# Altium integrated library TI Amplifiers and Linear Operational Amplifier High Speed.IntLib: 1100 symbols (part 37 of 44)
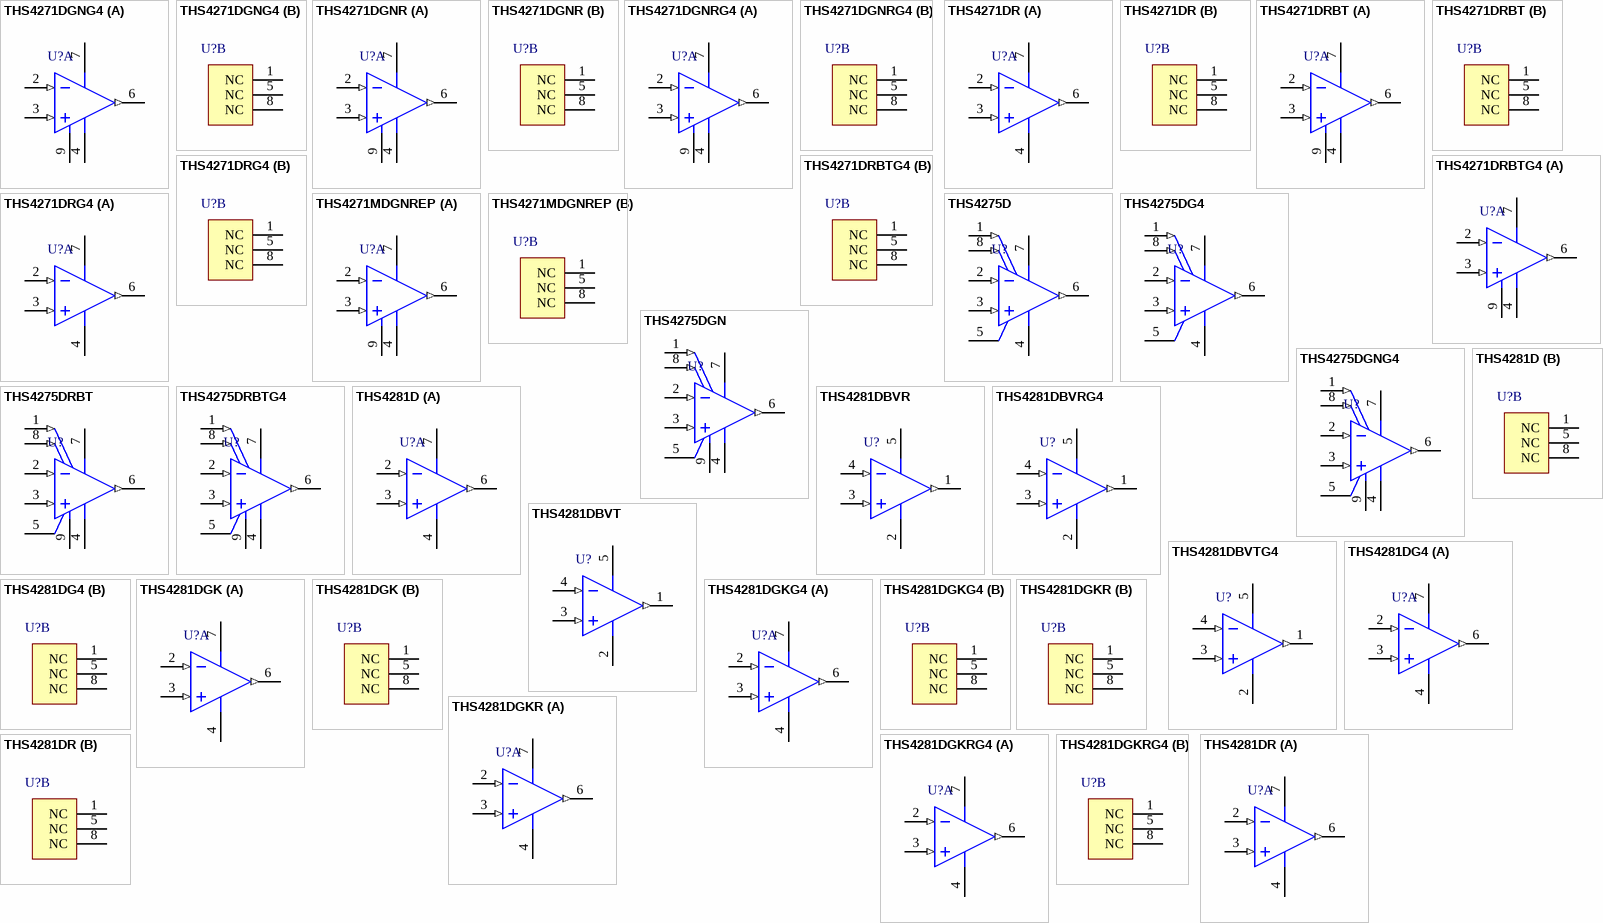
[diagram p87: symbols THS4271DGNG4 to THS4281DR]

## THS4271DRG4
designator U?
Super-Fast Ultra-Low Distortion High Speed Amplifier, 5 to 10 V, -40 to 85 degC, 8-pin SOIC (D8), Green (RoHS & no Sb/Br); Manufacturer: Texas Instruments; PartNumber: THS4271DRG4; 2nd Harmonic(dBc): 92; 3rd Harmonic(dBc): 95; @ MHz: 30; Acl, min stable gain(V/V): 1; BW @ Acl(MHz): 1400; Diff Gain(%): 0.007; Diff Phase(deg): 0.004; Iib(Max)(nA): 18000; Io(Typ)(mA): 160; Iq per channel(Max)(mA): 28; Settling Time (0.1%)(Typ)(ns): 25; Slew Rate(Typ)(V/us): 1000; Sub Family: High Output Current Amplifier (>=50mA), High Speed Amplifier (>=50MHz); THD (Fc is 1 MHz)(Typ)(dB): -92; Vio(Max)(mV): 12; Vn at Flatband(Typ)(nV/rtHz): 3; Vs(Max)(V): 10; Vs(Min)(V): 5; DatasheetVersion: SLOS397F; PackageVersion: 4040047-3/M, 06/2011; PackageReference: D8; PackageDescription: 8-Pin Plastic Small Outline, Body 4.9 x 3.9 mm, Pitch 1.27 mm; Supplier 1: Digi-Key; Supplier Part Number 1: THS4271DRG4-ND; Supplier 2: Mouser; Supplier Part Number 2: 595-THS4271DRG4; Eco-Plan: Green (RoHS & no Sb/Br); Number of Channels: 1; Mounting Technology: Surface Mount; Code_JEDEC: MS-012; ComponentLink1Description: Manufacturer URL; ComponentLink1URL: http://www.ti.com/; ComponentLink2Description: Datasheet; ComponentLink2URL: http://www.ti.com/general/docs/lit/getliterature.tsp?genericPartNumber=THS4271&fileType=pdf; ComponentLink3Description: Package Specification; ComponentLink3URL: http://www.ti.com/litv/pdf/msoi002j
footprint TI-D8_N (SOIC, 8-Leads, Body 4.9x3.9mm, Pitch 1.27mm, IPC Medium Density)
footprint TI-D8_L (SOIC, 8-Leads, Body 4.9x3.9mm, Pitch 1.27mm, IPC High Density)
footprint TI-D8_M (SOIC, 8-Leads, Body 4.9x3.9mm, Pitch 1.27mm, IPC Low Density)
part A pins: 2 IN- (in), 3 IN+ (in), 4 VS- (power), 6 VOUT (out), 7 VS+ (power)
part B pins: 1 NC, 5 NC, 8 NC

## THS4271MDGNREP
designator U?
Enhanced Product Low Noise High Slew Rate Unity Gain Stable Voltage Feedback Amplifier, 5 to 10 V, -55 to 125 degC, 8-pin SOP (DGN8), Green (RoHS & no Sb/Br); Manufacturer: Texas Instruments; PartNumber: THS4271MDGNREP; 2nd Harmonic(dBc): 92; 3rd Harmonic(dBc): 95; @ MHz: 30; BW @ Acl(MHz): 1400; Diff Gain(%): 0.007; Diff Phase(deg): 0.004; Iib(Max)(nA): 18000; Io(Typ)(mA): 160; Iq per channel(Max)(mA): 24; Number of Channels: 1; Settling Time (0.1%)(Typ)(ns): 25; Slew Rate(Typ)(V/us): 1000; Sub Family: High Output Current Amplifier (>=50mA), High Speed Amplifier (>=50MHz); THD (Fc is 1 MHz)(Typ)(dB): -95; Vio(Max)(mV): 14; Vn at Flatband(Typ)(nV/rtHz): 3; Vs(Max)(V): 10; Vs(Min)(V): 5; DatasheetVersion: SGLS270C; PackageVersion: 4073271/F, 05/2011; PackageReference: DGN8-1760X1425TP; PackageDescription: 8-pin Plastic Small Outline, Body 3 x 3 mm, Pitch 0.65 mm; Supplier 1: Arrow; Supplier Part Number 1: 41507530S9815068N7713; Supplier 2: Digi-Key; Supplier Part Number 2: 296-18134-2-ND; Supplier 3: Digi-Key; Supplier Part Number 3: 296-18134-1-ND; Supplier 4: Digi-Key; Supplier Part Number 4: 296-18134-6-ND; Supplier 5: Mouser; Supplier Part Number 5: 595-THS4271MDGNREP; Eco-Plan: Green (RoHS & no Sb/Br); Mounting Technology: Surface Mount; Code_JEDEC: MO-187; ComponentLink1Description: Manufacturer URL; ComponentLink1URL: http://www.ti.com/; ComponentLink2Description: Datasheet; ComponentLink2URL: http://www.ti.com/general/docs/lit/getliterature.tsp?genericPartNumber=THS4271-EP&fileType=pdf; ComponentLink3Description: Package Specification; ComponentLink3URL: http://www.ti.com/litv/pdf/mpds046e
footprint TI-DGN8-1760X1425TP_N (SOP, 8-Leads, Body 3x3mm, Pitch 0.65mm, Thermal Pad 1.76x1.425mm, IPC Medium Density)
footprint TI-DGN8-1760X1425TP_L (SOP, 8-Leads, Body 3x3mm, Pitch 0.65mm, Thermal Pad 1.76x1.425mm, IPC High Density)
footprint TI-DGN8-1760X1425TP_M (SOP, 8-Leads, Body 3x3mm, Pitch 0.65mm, Thermal Pad 1.76 x 1.425 mm, IPC Low Density)
part A pins: 2 IN- (in), 3 IN+ (in), 4 VS- (power), 6 VOUT (out), 7 VS+ (power), 9 EP (power)
part B pins: 1 NC, 5 NC, 8 NC

## THS4275D
designator U?
Super-Fast Ultra-Low Distortion High Speed Amplifier with Shutdown, 5 to 10 V, -40 to 85 degC, 8-pin SOIC (D8), Green (RoHS & no Sb/Br); Manufacturer: Texas Instruments; PartNumber: THS4275D; 2nd Harmonic(dBc): 92; 3rd Harmonic(dBc): 95; @ MHz: 30; Acl, min stable gain(V/V): 1; BW @ Acl(MHz): 1400; Diff Gain(%): 0.007; Diff Phase(deg): 0.004; Iib(Max)(nA): 18000; Io(Typ)(mA): 160; Iq per channel(Max)(mA): 28; Settling Time (0.1%)(Typ)(ns): 25; Slew Rate(Typ)(V/us): 1000; Sub Family: High Output Current Amplifier (>=50mA), High Speed Amplifier (>=50MHz); THD (Fc is 1 MHz)(Typ)(dB): -90; Vio(Max)(mV): 5; Vn at Flatband(Typ)(nV/rtHz): 3; Vs(Max)(V): 15; DatasheetVersion: SLOS397F; PackageVersion: 4040047-3/M, 06/2011; PackageReference: D8; PackageDescription: 8-Pin Plastic Small Outline, Body 4.9 x 3.9 mm, Pitch 1.27 mm; Supplier 1: Digi-Key; Supplier Part Number 1: 296-13824-5-ND; Supplier 2: Farnell; Supplier Part Number 2: 8453349; Supplier 3: Newark; Supplier Part Number 3: 02E7129; Supplier 4: Mouser; Supplier Part Number 4: 595-THS4275D; Eco-Plan: Green (RoHS & no Sb/Br); Number of Channels: 1; Vs(Min)(V): 5; Mounting Technology: Surface Mount; Code_JEDEC: MS-012; ComponentLink1Description: Manufacturer URL; ComponentLink1URL: http://www.ti.com/; ComponentLink2Description: Datasheet; ComponentLink2URL: http://www.ti.com/general/docs/lit/getliterature.tsp?genericPartNumber=THS4275&fileType=pdf; ComponentLink3Description: Package Specification; ComponentLink3URL: http://www.ti.com/litv/pdf/msoi002j
footprint TI-D8_N (SOIC, 8-Leads, Body 4.9x3.9mm, Pitch 1.27mm, IPC Medium Density)
footprint TI-D8_L (SOIC, 8-Leads, Body 4.9x3.9mm, Pitch 1.27mm, IPC High Density)
footprint TI-D8_M (SOIC, 8-Leads, Body 4.9x3.9mm, Pitch 1.27mm, IPC Low Density)
pins: 1 REF (in), 2 IN- (in), 3 IN+ (in), 4 VS- (power), 5 NC, 6 VOUT (out), 7 VS+ (power), 8 ~{PD} (in)

## THS4275DG4
designator U?
Super-Fast Ultra-Low Distortion High Speed Amplifier with Shutdown, 5 to 10 V, -40 to 85 degC, 8-pin SOIC (D8), Green (RoHS & no Sb/Br); Manufacturer: Texas Instruments; PartNumber: THS4275DG4; 2nd Harmonic(dBc): 92; 3rd Harmonic(dBc): 95; @ MHz: 30; Acl, min stable gain(V/V): 1; BW @ Acl(MHz): 1400; Diff Gain(%): 0.007; Diff Phase(deg): 0.004; Iib(Max)(nA): 18000; Io(Typ)(mA): 160; Iq per channel(Max)(mA): 28; Settling Time (0.1%)(Typ)(ns): 25; Slew Rate(Typ)(V/us): 1000; Sub Family: High Output Current Amplifier (>=50mA), High Speed Amplifier (>=50MHz); THD (Fc is 1 MHz)(Typ)(dB): -90; Vio(Max)(mV): 5; Vn at Flatband(Typ)(nV/rtHz): 3; Vs(Max)(V): 15; DatasheetVersion: SLOS397F; PackageVersion: 4040047-3/M, 06/2011; PackageReference: D8; PackageDescription: 8-Pin Plastic Small Outline, Body 4.9 x 3.9 mm, Pitch 1.27 mm; Supplier 1: Digi-Key; Supplier Part Number 1: THS4275DG4-ND; Supplier 2: Mouser; Supplier Part Number 2: 595-THS4275DG4; Eco-Plan: Green (RoHS & no Sb/Br); Number of Channels: 1; Vs(Min)(V): 5; Mounting Technology: Surface Mount; Code_JEDEC: MS-012; ComponentLink1Description: Manufacturer URL; ComponentLink1URL: http://www.ti.com/; ComponentLink2Description: Datasheet; ComponentLink2URL: http://www.ti.com/general/docs/lit/getliterature.tsp?genericPartNumber=THS4275&fileType=pdf; ComponentLink3Description: Package Specification; ComponentLink3URL: http://www.ti.com/litv/pdf/msoi002j
footprint TI-D8_N (SOIC, 8-Leads, Body 4.9x3.9mm, Pitch 1.27mm, IPC Medium Density)
footprint TI-D8_L (SOIC, 8-Leads, Body 4.9x3.9mm, Pitch 1.27mm, IPC High Density)
footprint TI-D8_M (SOIC, 8-Leads, Body 4.9x3.9mm, Pitch 1.27mm, IPC Low Density)
pins: 1 REF (in), 2 IN- (in), 3 IN+ (in), 4 VS- (power), 5 NC, 6 VOUT (out), 7 VS+ (power), 8 ~{PD} (in)

## THS4275DGN
designator U?
Super-Fast Ultra-Low Distortion High Speed Amplifier with Shutdown, 5 to 10 V, -40 to 85 degC, 8-pin SOP (DGN8), Green (RoHS & no Sb/Br); Manufacturer: Texas Instruments; PartNumber: THS4275DGN; 2nd Harmonic(dBc): 92; 3rd Harmonic(dBc): 95; @ MHz: 30; Acl, min stable gain(V/V): 1; BW @ Acl(MHz): 1400; Diff Gain(%): 0.007; Diff Phase(deg): 0.004; Iib(Max)(nA): 18000; Io(Typ)(mA): 160; Iq per channel(Max)(mA): 28; Settling Time (0.1%)(Typ)(ns): 25; Slew Rate(Typ)(V/us): 1000; Sub Family: High Output Current Amplifier (>=50mA), High Speed Amplifier (>=50MHz); THD (Fc is 1 MHz)(Typ)(dB): -90; Vio(Max)(mV): 5; Vn at Flatband(Typ)(nV/rtHz): 3; Vs(Max)(V): 10; DatasheetVersion: SLOS397F; PackageVersion: 4073271/F, 05/2011; PackageReference: DGN8-1760X1425TP; PackageDescription: 8-pin Plastic Small Outline, Body 3 x 3 mm, Pitch 0.65 mm; Supplier 1: Digi-Key; Supplier Part Number 1: 296-13660-5-ND; Supplier 2: Newark; Supplier Part Number 2: 36K7640; Supplier 3: Mouser; Supplier Part Number 3: 595-THS4275DGN; Eco-Plan: Green (RoHS & no Sb/Br); Number of Channels: 1; Vs(Min)(V): 5; Mounting Technology: Surface Mount; Code_JEDEC: MO-187; ComponentLink1Description: Manufacturer URL; ComponentLink1URL: http://www.ti.com/; ComponentLink2Description: Datasheet; ComponentLink2URL: http://www.ti.com/general/docs/lit/getliterature.tsp?genericPartNumber=THS4275&fileType=pdf; ComponentLink3Description: Package Specification; ComponentLink3URL: http://www.ti.com/litv/pdf/mpds046e
footprint TI-DGN8-1760X1425TP_N (SOP, 8-Leads, Body 3x3mm, Pitch 0.65mm, Thermal Pad 1.76x1.425mm, IPC Medium Density)
footprint TI-DGN8-1760X1425TP_L (SOP, 8-Leads, Body 3x3mm, Pitch 0.65mm, Thermal Pad 1.76x1.425mm, IPC High Density)
footprint TI-DGN8-1760X1425TP_M (SOP, 8-Leads, Body 3x3mm, Pitch 0.65mm, Thermal Pad 1.76 x 1.425 mm, IPC Low Density)
pins: 1 REF (in), 2 IN- (in), 3 IN+ (in), 4 VS- (power), 5 NC, 6 VOUT (out), 7 VS+ (power), 8 ~{PD} (in), 9 EP (power)

## THS4275DGNG4
designator U?
Super-Fast Ultra-Low Distortion High Speed Amplifier with Shutdown, 5 to 10 V, -40 to 85 degC, 8-pin SOP (DGN8), Green (RoHS & no Sb/Br); Manufacturer: Texas Instruments; PartNumber: THS4275DGNG4; 2nd Harmonic(dBc): 92; 3rd Harmonic(dBc): 95; @ MHz: 30; Acl, min stable gain(V/V): 1; BW @ Acl(MHz): 1400; Diff Gain(%): 0.007; Diff Phase(deg): 0.004; Iib(Max)(nA): 18000; Io(Typ)(mA): 160; Iq per channel(Max)(mA): 28; Settling Time (0.1%)(Typ)(ns): 25; Slew Rate(Typ)(V/us): 1000; Sub Family: High Output Current Amplifier (>=50mA), High Speed Amplifier (>=50MHz); THD (Fc is 1 MHz)(Typ)(dB): -90; Vio(Max)(mV): 5; Vn at Flatband(Typ)(nV/rtHz): 3; Vs(Max)(V): 10; DatasheetVersion: SLOS397F; PackageVersion: 4073271/F, 05/2011; PackageReference: DGN8-1760X1425TP; PackageDescription: 8-pin Plastic Small Outline, Body 3 x 3 mm, Pitch 0.65 mm; Supplier 1: Digi-Key; Supplier Part Number 1: THS4275DGNG4-ND; Supplier 2: Newark; Supplier Part Number 2: 24K5035; Supplier 3: Mouser; Supplier Part Number 3: 595-THS4275DGNG4; Eco-Plan: Green (RoHS & no Sb/Br); Number of Channels: 1; Vs(Min)(V): 5; Mounting Technology: Surface Mount; Code_JEDEC: MO-187; ComponentLink1Description: Manufacturer URL; ComponentLink1URL: http://www.ti.com/; ComponentLink2Description: Datasheet; ComponentLink2URL: http://www.ti.com/general/docs/lit/getliterature.tsp?genericPartNumber=THS4275&fileType=pdf; ComponentLink3Description: Package Specification; ComponentLink3URL: http://www.ti.com/litv/pdf/mpds046e
footprint TI-DGN8-1760X1425TP_N (SOP, 8-Leads, Body 3x3mm, Pitch 0.65mm, Thermal Pad 1.76x1.425mm, IPC Medium Density)
footprint TI-DGN8-1760X1425TP_L (SOP, 8-Leads, Body 3x3mm, Pitch 0.65mm, Thermal Pad 1.76x1.425mm, IPC High Density)
footprint TI-DGN8-1760X1425TP_M (SOP, 8-Leads, Body 3x3mm, Pitch 0.65mm, Thermal Pad 1.76 x 1.425 mm, IPC Low Density)
pins: 1 REF (in), 2 IN- (in), 3 IN+ (in), 4 VS- (power), 5 NC, 6 VOUT (out), 7 VS+ (power), 8 ~{PD} (in), 9 EP (power)

## THS4275DRBT
designator U?
Super-Fast Ultra-Low Distortion High Speed Amplifier with Shutdown, 5 to 10 V, -40 to 85 degC, 8-pin SON (DRB8), Green (RoHS & no Sb/Br); Manufacturer: Texas Instruments; PartNumber: THS4275DRBT; 2nd Harmonic(dBc): 92; 3rd Harmonic(dBc): 95; @ MHz: 30; Acl, min stable gain(V/V): 1; BW @ Acl(MHz): 1400; Diff Gain(%): 0.007; Diff Phase(deg): 0.004; Iib(Max)(nA): 18000; Io(Typ)(mA): 160; Iq per channel(Max)(mA): 28; Settling Time (0.1%)(Typ)(ns): 25; Slew Rate(Typ)(V/us): 1000; Sub Family: High Output Current Amplifier (>=50mA), High Speed Amplifier (>=50MHz); THD (Fc is 1 MHz)(Typ)(dB): -90; Vio(Max)(mV): 5; Vn at Flatband(Typ)(nV/rtHz): 3; Vs(Max)(V): 10; DatasheetVersion: SLOS397F; PackageVersion: 4203482-2/K, 06/2012; PackageReference: DRB8-1750X1500TP; PackageDescription: 8-Pin Plastic Small Outline, Body 3 x 3 mm, Pitch 0.65 mm; Supplier 1: Digi-Key; Supplier Part Number 1: 296-15406-2-ND; Supplier 2: Digi-Key; Supplier Part Number 2: 296-15406-1-ND; Supplier 3: Digi-Key; Supplier Part Number 3: 296-15406-6-ND; Supplier 4: Newark; Supplier Part Number 4: 82H5815; Supplier 5: Mouser; Supplier Part Number 5: 595-THS4275DRBT; Eco-Plan: Green (RoHS & no Sb/Br); Number of Channels: 1; Vs(Min)(V): 5; Mounting Technology: Surface Mount; ComponentLink1Description: Manufacturer URL; ComponentLink1URL: http://www.ti.com/; ComponentLink2Description: Datasheet; ComponentLink2URL: http://www.ti.com/general/docs/lit/getliterature.tsp?genericPartNumber=THS4275&fileType=pdf; ComponentLink3Description: Package Specification; ComponentLink3URL: http://www.ti.com/litv/pdf/mpds118h
footprint TI-DRB8-1750X1500TP_V (SON, 8-Leads, Body 3x3mm, Pitch 0.65mm, Thermal Pad 1.50 x 3.8mm)
pins: 1 REF (in), 2 IN- (in), 3 IN+ (in), 4 VS- (power), 5 NC, 6 VOUT (out), 7 VS+ (power), 8 ~{PD} (in), 9 EP (power)

## THS4275DRBTG4
designator U?
Super-Fast Ultra-Low Distortion High Speed Amplifier with Shutdown, 5 to 10 V, -40 to 85 degC, 8-pin SON (DRB8), Green (RoHS & no Sb/Br); Manufacturer: Texas Instruments; PartNumber: THS4275DRBTG4; 2nd Harmonic(dBc): 92; 3rd Harmonic(dBc): 95; @ MHz: 30; Acl, min stable gain(V/V): 1; BW @ Acl(MHz): 1400; Diff Gain(%): 0.007; Diff Phase(deg): 0.004; Iib(Max)(nA): 18000; Io(Typ)(mA): 160; Iq per channel(Max)(mA): 28; Settling Time (0.1%)(Typ)(ns): 25; Slew Rate(Typ)(V/us): 1000; Sub Family: High Output Current Amplifier (>=50mA), High Speed Amplifier (>=50MHz); THD (Fc is 1 MHz)(Typ)(dB): -90; Vio(Max)(mV): 12; Vn at Flatband(Typ)(nV/rtHz): 3; Vs(Max)(V): 10; Vs(Min)(V): 5; DatasheetVersion: SLOS397F; PackageVersion: 4203482-2/K, 06/2012; PackageReference: DRB8-1750X1500TP; PackageDescription: 8-Pin Plastic Small Outline, Body 3 x 3 mm, Pitch 0.65 mm; Supplier 1: Digi-Key; Supplier Part Number 1: THS4275DRBTG4-ND; Supplier 2: Mouser; Supplier Part Number 2: 595-THS4275DRBTG4; Eco-Plan: Green (RoHS & no Sb/Br); Number of Channels: 1; Mounting Technology: Surface Mount; ComponentLink1Description: Manufacturer URL; ComponentLink1URL: http://www.ti.com/; ComponentLink2Description: Datasheet; ComponentLink2URL: http://www.ti.com/general/docs/lit/getliterature.tsp?genericPartNumber=THS4275&fileType=pdf; ComponentLink3Description: Package Specification; ComponentLink3URL: http://www.ti.com/litv/pdf/mpds118h
footprint TI-DRB8-1750X1500TP_V (SON, 8-Leads, Body 3x3mm, Pitch 0.65mm, Thermal Pad 1.50 x 3.8mm)
pins: 1 REF (in), 2 IN- (in), 3 IN+ (in), 4 VS- (power), 5 NC, 6 VOUT (out), 7 VS+ (power), 8 ~{PD} (in), 9 EP (power)

## THS4281D
designator U?
Very Low-Power High Speed Rail-to-Rail Input / Output Voltage Feedback Operational Amplifier, 2.7 to 16.5 V, -40 to 85 degC, 8-pin SOIC (D8), Green (RoHS & no Sb/Br); Manufacturer: Texas Instruments; PartNumber: THS4281D; 2nd Harmonic(dBc): 52; @ MHz: 1; BW @ Acl(MHz): 90; Diff Gain(%): 0.11; Iib(Max)(nA): 1000; Io(Typ)(mA): 30; Rail-Rail: In, Out; Settling Time (0.1%)(Typ)(ns): 78; Slew Rate(Typ)(V/us): 35; Sub Family: High Speed Amplifier (>=50MHz), Low Supply Voltage Amplifier (<=2.7V); THD (Fc is 1 MHz)(Typ)(dB): -67; Vio(Max)(mV): 3.5; Vn at Flatband(Typ)(nV/rtHz): 12.5; Vs(Max)(V): 16.5; Vs(Min)(V): 2.7; DatasheetVersion: SLOS432A; PackageVersion: 4040047-3/M, 06/2011; PackageReference: D8; PackageDescription: 8-Pin Plastic Small Outline, Body 4.9 x 3.9 mm, Pitch 1.27 mm; Supplier 1: Digi-Key; Supplier Part Number 1: 296-16999-5-ND; Supplier 2: Farnell; Supplier Part Number 2: 8453357; Supplier 3: Newark; Supplier Part Number 3: 38K8261; Supplier 4: Newark; Supplier Part Number 4: 10J9687; Supplier 5: Mouser; Supplier Part Number 5: 595-THS4281D; 3rd Harmonic(dBc): 52; Acl, min stable gain(V/V): 1; Diff Phase(deg): 0.11; Eco-Plan: Green (RoHS & no Sb/Br); Iq per channel(Max)(mA): 1; Number of Channels: 1; Mounting Technology: Surface Mount; Code_JEDEC: MS-012; ComponentLink1Description: Manufacturer URL; ComponentLink1URL: http://www.ti.com/; ComponentLink2Description: Datasheet; ComponentLink2URL: http://www.ti.com/general/docs/lit/getliterature.tsp?genericPartNumber=THS4281&fileType=pdf; ComponentLink3Description: Package Specification; ComponentLink3URL: http://www.ti.com/litv/pdf/msoi002j
footprint TI-D8_N (SOIC, 8-Leads, Body 4.9x3.9mm, Pitch 1.27mm, IPC Medium Density)
footprint TI-D8_L (SOIC, 8-Leads, Body 4.9x3.9mm, Pitch 1.27mm, IPC High Density)
footprint TI-D8_M (SOIC, 8-Leads, Body 4.9x3.9mm, Pitch 1.27mm, IPC Low Density)
part A pins: 2 IN- (in), 3 IN+ (in), 4 VS- (power), 6 VOUT (out), 7 VS+ (power)
part B pins: 1 NC, 5 NC, 8 NC

## THS4281DBVR
designator U?
Very Low-Power High Speed Rail-to-Rail Input / Output Voltage Feedback Operational Amplifier, 2.7 to 16.5 V, -40 to 85 degC, 5-pin SOT23 (DBV5), Green (RoHS & no Sb/Br); Manufacturer: Texas Instruments; PartNumber: THS4281DBVR; 2nd Harmonic(dBc): 52; @ MHz: 1; BW @ Acl(MHz): 90; Diff Gain(%): 0.11; Iib(Max)(nA): 1000; Io(Typ)(mA): 30; Rail-Rail: In, Out; Settling Time (0.1%)(Typ)(ns): 78; Slew Rate(Typ)(V/us): 35; Sub Family: High Speed Amplifier (>=50MHz), Low Supply Voltage Amplifier (<=2.7V); THD (Fc is 1 MHz)(Typ)(dB): -67; Vio(Max)(mV): 3.5; Vn at Flatband(Typ)(nV/rtHz): 12.5; Vs(Max)(V): 16.5; Vs(Min)(V): 2.7; DatasheetVersion: SLOS432A; PackageVersion: 4073253-4/K, 03/2006; PackageReference: DBV5; PackageDescription: 5-Pin Plastic Small Outline, Body 1.6 x 2.9 mm, Pitch 0.95 mm; Supplier 1: Digi-Key; Supplier Part Number 1: THS4281DBVR-ND; Supplier 2: Newark; Supplier Part Number 2: 10J9688; Supplier 3: Mouser; Supplier Part Number 3: 595-THS4281DBVR; 3rd Harmonic(dBc): 52; Acl, min stable gain(V/V): 1; Diff Phase(deg): 0.11; Eco-Plan: Green (RoHS & no Sb/Br); Iq per channel(Max)(mA): 1; Number of Channels: 1; Mounting Technology: Surface Mount; Code_JEDEC: MO-178; ComponentLink1Description: Manufacturer URL; ComponentLink1URL: http://www.ti.com/; ComponentLink2Description: Datasheet; ComponentLink2URL: http://www.ti.com/general/docs/lit/getliterature.tsp?genericPartNumber=THS4281&fileType=pdf; ComponentLink3Description: Package Specification; ComponentLink3URL: http://www.ti.com/litv/pdf/mpds018i
footprint TI-DBV5_N (SOT23, 5-Leads, Body 2.9x1.6mm, Pitch 0.95mm, IPC Medium Density)
footprint TI-DBV5_L (SOT23, 5-Leads, Body 2.9x1.6mm, Pitch 0.95mm, IPC High Density)
footprint TI-DBV5_M (SOT23, 5-Leads, Body 2.9x1.6mm, Pitch 0.95mm, IPC Low Density)
pins: 1 VOUT (out), 2 VS- (power), 3 IN+ (in), 4 IN- (in), 5 VS+ (power)

## THS4281DBVRG4
designator U?
Very Low-Power High Speed Rail-to-Rail Input / Output Voltage Feedback Operational Amplifier, 2.7 to 16.5 V, -40 to 85 degC, 5-pin SOT23 (DBV5), Green (RoHS & no Sb/Br); Manufacturer: Texas Instruments; PartNumber: THS4281DBVRG4; 2nd Harmonic(dBc): 52; @ MHz: 1; BW @ Acl(MHz): 90; Diff Gain(%): 0.11; Iib(Max)(nA): 1000; Io(Typ)(mA): 30; Rail-Rail: In, Out; Settling Time (0.1%)(Typ)(ns): 78; Slew Rate(Typ)(V/us): 35; Sub Family: High Speed Amplifier (>=50MHz), Low Supply Voltage Amplifier (<=2.7V); THD (Fc is 1 MHz)(Typ)(dB): -67; Vio(Max)(mV): 3.5; Vn at Flatband(Typ)(nV/rtHz): 12.5; Vs(Max)(V): 16.5; Vs(Min)(V): 2.7; DatasheetVersion: SLOS432A; PackageVersion: 4073253-4/K, 03/2006; PackageReference: DBV5; PackageDescription: 5-Pin Plastic Small Outline, Body 1.6 x 2.9 mm, Pitch 0.95 mm; Supplier 1: Digi-Key; Supplier Part Number 1: THS4281DBVRG4-ND; Supplier 2: Mouser; Supplier Part Number 2: 595-THS4281DBVRG4; 3rd Harmonic(dBc): 52; Acl, min stable gain(V/V): 1; Diff Phase(deg): 0.11; Eco-Plan: Green (RoHS & no Sb/Br); Iq per channel(Max)(mA): 1; Number of Channels: 1; Mounting Technology: Surface Mount; Code_JEDEC: MO-178; ComponentLink1Description: Manufacturer URL; ComponentLink1URL: http://www.ti.com/; ComponentLink2Description: Datasheet; ComponentLink2URL: http://www.ti.com/general/docs/lit/getliterature.tsp?genericPartNumber=THS4281&fileType=pdf; ComponentLink3Description: Package Specification; ComponentLink3URL: http://www.ti.com/litv/pdf/mpds018i
footprint TI-DBV5_N (SOT23, 5-Leads, Body 2.9x1.6mm, Pitch 0.95mm, IPC Medium Density)
footprint TI-DBV5_L (SOT23, 5-Leads, Body 2.9x1.6mm, Pitch 0.95mm, IPC High Density)
footprint TI-DBV5_M (SOT23, 5-Leads, Body 2.9x1.6mm, Pitch 0.95mm, IPC Low Density)
pins: 1 VOUT (out), 2 VS- (power), 3 IN+ (in), 4 IN- (in), 5 VS+ (power)

## THS4281DBVT
designator U?
Very Low-Power High Speed Rail-to-Rail Input / Output Voltage Feedback Operational Amplifier, 2.7 to 16.5 V, -40 to 85 degC, 5-pin SOT23 (DBV5), Green (RoHS & no Sb/Br); Manufacturer: Texas Instruments; PartNumber: THS4281DBVT; 2nd Harmonic(dBc): 52; @ MHz: 1; BW @ Acl(MHz): 90; Diff Gain(%): 0.11; Iib(Max)(nA): 1000; Io(Typ)(mA): 30; Rail-Rail: In, Out; Settling Time (0.1%)(Typ)(ns): 78; Slew Rate(Typ)(V/us): 35; Sub Family: High Speed Amplifier (>=50MHz), Low Supply Voltage Amplifier (<=2.7V); THD (Fc is 1 MHz)(Typ)(dB): -67; Vio(Max)(mV): 3.5; Vn at Flatband(Typ)(nV/rtHz): 12.5; Vs(Max)(V): 16.5; Vs(Min)(V): 2.7; DatasheetVersion: SLOS432A; PackageVersion: 4073253-4/K, 03/2006; PackageReference: DBV5; PackageDescription: 5-Pin Plastic Small Outline, Body 1.6 x 2.9 mm, Pitch 0.95 mm; Supplier 1: Digi-Key; Supplier Part Number 1: 296-17000-2-ND; Supplier 2: Digi-Key; Supplier Part Number 2: 296-17000-1-ND; Supplier 3: Digi-Key; Supplier Part Number 3: 296-17000-6-ND; Supplier 4: Farnell; Supplier Part Number 4: 2075434; Supplier 5: Newark; Supplier Part Number 5: 10J9689; Supplier 6: Mouser; Supplier Part Number 6: 595-THS4281DBVT; 3rd Harmonic(dBc): 52; Acl, min stable gain(V/V): 1; Diff Phase(deg): 0.11; Eco-Plan: Green (RoHS & no Sb/Br); Iq per channel(Max)(mA): 1; Number of Channels: 1; Mounting Technology: Surface Mount; Code_JEDEC: MO-178; ComponentLink1Description: Manufacturer URL; ComponentLink1URL: http://www.ti.com/; ComponentLink2Description: Datasheet; ComponentLink2URL: http://www.ti.com/general/docs/lit/getliterature.tsp?genericPartNumber=THS4281&fileType=pdf; ComponentLink3Description: Package Specification; ComponentLink3URL: http://www.ti.com/litv/pdf/mpds018i
footprint TI-DBV5_N (SOT23, 5-Leads, Body 2.9x1.6mm, Pitch 0.95mm, IPC Medium Density)
footprint TI-DBV5_L (SOT23, 5-Leads, Body 2.9x1.6mm, Pitch 0.95mm, IPC High Density)
footprint TI-DBV5_M (SOT23, 5-Leads, Body 2.9x1.6mm, Pitch 0.95mm, IPC Low Density)
pins: 1 VOUT (out), 2 VS- (power), 3 IN+ (in), 4 IN- (in), 5 VS+ (power)

## THS4281DBVTG4
designator U?
Very Low-Power High Speed Rail-to-Rail Input / Output Voltage Feedback Operational Amplifier, 2.7 to 16.5 V, -40 to 85 degC, 5-pin SOT23 (DBV5), Green (RoHS & no Sb/Br); Manufacturer: Texas Instruments; PartNumber: THS4281DBVTG4; 2nd Harmonic(dBc): 52; @ MHz: 1; BW @ Acl(MHz): 90; Diff Gain(%): 0.11; Iib(Max)(nA): 1000; Io(Typ)(mA): 30; Rail-Rail: In, Out; Settling Time (0.1%)(Typ)(ns): 78; Slew Rate(Typ)(V/us): 35; Sub Family: High Speed Amplifier (>=50MHz), Low Supply Voltage Amplifier (<=2.7V); THD (Fc is 1 MHz)(Typ)(dB): -67; Vio(Max)(mV): 3.5; Vn at Flatband(Typ)(nV/rtHz): 12.5; Vs(Max)(V): 16.5; Vs(Min)(V): 2.7; DatasheetVersion: SLOS432A; PackageVersion: 4073253-4/K, 03/2006; PackageReference: DBV5; PackageDescription: 5-Pin Plastic Small Outline, Body 1.6 x 2.9 mm, Pitch 0.95 mm; Supplier 1: Digi-Key; Supplier Part Number 1: THS4281DBVTG4-ND; Supplier 2: Mouser; Supplier Part Number 2: 595-THS4281DBVTG4; 3rd Harmonic(dBc): 52; Acl, min stable gain(V/V): 1; Diff Phase(deg): 0.11; Eco-Plan: Green (RoHS & no Sb/Br); Iq per channel(Max)(mA): 1; Number of Channels: 1; Mounting Technology: Surface Mount; Code_JEDEC: MO-178; ComponentLink1Description: Manufacturer URL; ComponentLink1URL: http://www.ti.com/; ComponentLink2Description: Datasheet; ComponentLink2URL: http://www.ti.com/general/docs/lit/getliterature.tsp?genericPartNumber=THS4281&fileType=pdf; ComponentLink3Description: Package Specification; ComponentLink3URL: http://www.ti.com/litv/pdf/mpds018i
footprint TI-DBV5_N (SOT23, 5-Leads, Body 2.9x1.6mm, Pitch 0.95mm, IPC Medium Density)
footprint TI-DBV5_L (SOT23, 5-Leads, Body 2.9x1.6mm, Pitch 0.95mm, IPC High Density)
footprint TI-DBV5_M (SOT23, 5-Leads, Body 2.9x1.6mm, Pitch 0.95mm, IPC Low Density)
pins: 1 VOUT (out), 2 VS- (power), 3 IN+ (in), 4 IN- (in), 5 VS+ (power)

## THS4281DG4
designator U?
Very Low-Power High Speed Rail-to-Rail Input / Output Voltage Feedback Operational Amplifier, 2.7 to 16.5 V, -40 to 85 degC, 8-pin SOIC (D8), Green (RoHS & no Sb/Br); Manufacturer: Texas Instruments; PartNumber: THS4281DG4; 2nd Harmonic(dBc): 52; @ MHz: 1; BW @ Acl(MHz): 90; Diff Gain(%): 0.11; Iib(Max)(nA): 1000; Io(Typ)(mA): 30; Rail-Rail: In, Out; Settling Time (0.1%)(Typ)(ns): 78; Slew Rate(Typ)(V/us): 35; Sub Family: High Speed Amplifier (>=50MHz), Low Supply Voltage Amplifier (<=2.7V); THD (Fc is 1 MHz)(Typ)(dB): -67; Vio(Max)(mV): 3.5; Vn at Flatband(Typ)(nV/rtHz): 12.5; Vs(Max)(V): 16.5; Vs(Min)(V): 2.7; DatasheetVersion: SLOS432A; PackageVersion: 4040047-3/M, 06/2011; PackageReference: D8; PackageDescription: 8-Pin Plastic Small Outline, Body 4.9 x 3.9 mm, Pitch 1.27 mm; Supplier 1: Digi-Key; Supplier Part Number 1: THS4281DG4-ND; Supplier 2: Mouser; Supplier Part Number 2: 595-THS4281DG4; 3rd Harmonic(dBc): 52; Acl, min stable gain(V/V): 1; Diff Phase(deg): 0.11; Eco-Plan: Green (RoHS & no Sb/Br); Iq per channel(Max)(mA): 1; Number of Channels: 1; Mounting Technology: Surface Mount; Code_JEDEC: MS-012; ComponentLink1Description: Manufacturer URL; ComponentLink1URL: http://www.ti.com/; ComponentLink2Description: Datasheet; ComponentLink2URL: http://www.ti.com/general/docs/lit/getliterature.tsp?genericPartNumber=THS4281&fileType=pdf; ComponentLink3Description: Package Specification; ComponentLink3URL: http://www.ti.com/litv/pdf/msoi002j
footprint TI-D8_N (SOIC, 8-Leads, Body 4.9x3.9mm, Pitch 1.27mm, IPC Medium Density)
footprint TI-D8_L (SOIC, 8-Leads, Body 4.9x3.9mm, Pitch 1.27mm, IPC High Density)
footprint TI-D8_M (SOIC, 8-Leads, Body 4.9x3.9mm, Pitch 1.27mm, IPC Low Density)
part A pins: 2 IN- (in), 3 IN+ (in), 4 VS- (power), 6 VOUT (out), 7 VS+ (power)
part B pins: 1 NC, 5 NC, 8 NC

## THS4281DGK
designator U?
Very Low-Power High Speed Rail-to-Rail Input / Output Voltage Feedback Operational Amplifier, 2.7 to 16.5 V, -40 to 85 degC, 8-pin SOP (DGK8), Green (RoHS & no Sb/Br); Manufacturer: Texas Instruments; PartNumber: THS4281DGK; 2nd Harmonic(dBc): 52; @ MHz: 1; BW @ Acl(MHz): 90; Diff Gain(%): 0.11; Iib(Max)(nA): 1000; Io(Typ)(mA): 30; Rail-Rail: In, Out; Settling Time (0.1%)(Typ)(ns): 78; Slew Rate(Typ)(V/us): 35; Sub Family: High Speed Amplifier (>=50MHz), Low Supply Voltage Amplifier (<=2.7V); THD (Fc is 1 MHz)(Typ)(dB): -67; Vio(Max)(mV): 3.5; Vn at Flatband(Typ)(nV/rtHz): 12.5; Vs(Max)(V): 16.5; Vs(Min)(V): 2.7; DatasheetVersion: SLOS432A; PackageVersion: 4073329/E, 05/2006; PackageReference: DGK8; PackageDescription: 8-Pin Thin Small Outline, Body 3 x 3 mm, Pitch 0.65 mm; Supplier 1: Digi-Key; Supplier Part Number 1: 296-17001-5-ND; Supplier 2: Mouser; Supplier Part Number 2: 595-THS4281DGK; 3rd Harmonic(dBc): 52; Acl, min stable gain(V/V): 1; Diff Phase(deg): 0.11; Eco-Plan: Green (RoHS & no Sb/Br); Iq per channel(Max)(mA): 1; Number of Channels: 1; Mounting Technology: Surface Mount; Code_JEDEC: MO-187; ComponentLink1Description: Manufacturer URL; ComponentLink1URL: http://www.ti.com/; ComponentLink2Description: Datasheet; ComponentLink2URL: http://www.ti.com/general/docs/lit/getliterature.tsp?genericPartNumber=THS4281&fileType=pdf; ComponentLink3Description: Package Specification; ComponentLink3URL: http://www.ti.com/litv/pdf/mpds028d
footprint TI-DGK8_N (SOP, 8-Leads, Body 3x3mm, Pitch 0.65mm, IPC Medium Density)
footprint TI-DGK8_L (SOP, 8-Leads, Body 3x3mm, Pitch 0.65mm, IPC High Density)
footprint TI-DGK8_M (SOP, 8-Leads, Body 3x3mm, Pitch 0.65mm, IPC Low Density)
part A pins: 2 IN- (in), 3 IN+ (in), 4 VS- (power), 6 VOUT (out), 7 VS+ (power)
part B pins: 1 NC, 5 NC, 8 NC

## THS4281DGKG4
designator U?
Very Low-Power High Speed Rail-to-Rail Input / Output Voltage Feedback Operational Amplifier, 2.7 to 16.5 V, -40 to 85 degC, 8-pin SOP (DGK8), Green (RoHS & no Sb/Br); Manufacturer: Texas Instruments; PartNumber: THS4281DGKG4; 2nd Harmonic(dBc): 52; @ MHz: 1; BW @ Acl(MHz): 90; Diff Gain(%): 0.11; Iib(Max)(nA): 1000; Io(Typ)(mA): 30; Rail-Rail: In, Out; Settling Time (0.1%)(Typ)(ns): 78; Slew Rate(Typ)(V/us): 35; Sub Family: High Speed Amplifier (>=50MHz), Low Supply Voltage Amplifier (<=2.7V); THD (Fc is 1 MHz)(Typ)(dB): -67; Vio(Max)(mV): 3.5; Vn at Flatband(Typ)(nV/rtHz): 12.5; Vs(Max)(V): 16.5; Vs(Min)(V): 2.7; DatasheetVersion: SLOS432A; PackageVersion: 4073329/E, 05/2006; PackageReference: DGK8; PackageDescription: 8-Pin Thin Small Outline, Body 3 x 3 mm, Pitch 0.65 mm; Supplier 1: Digi-Key; Supplier Part Number 1: THS4281DGKG4-ND; Supplier 2: Mouser; Supplier Part Number 2: 595-THS4281DGKG4; 3rd Harmonic(dBc): 52; Acl, min stable gain(V/V): 1; Diff Phase(deg): 0.11; Eco-Plan: Green (RoHS & no Sb/Br); Iq per channel(Max)(mA): 1; Number of Channels: 1; Mounting Technology: Surface Mount; Code_JEDEC: MO-187; ComponentLink1Description: Manufacturer URL; ComponentLink1URL: http://www.ti.com/; ComponentLink2Description: Datasheet; ComponentLink2URL: http://www.ti.com/general/docs/lit/getliterature.tsp?genericPartNumber=THS4281&fileType=pdf; ComponentLink3Description: Package Specification; ComponentLink3URL: http://www.ti.com/litv/pdf/mpds028d
footprint TI-DGK8_N (SOP, 8-Leads, Body 3x3mm, Pitch 0.65mm, IPC Medium Density)
footprint TI-DGK8_L (SOP, 8-Leads, Body 3x3mm, Pitch 0.65mm, IPC High Density)
footprint TI-DGK8_M (SOP, 8-Leads, Body 3x3mm, Pitch 0.65mm, IPC Low Density)
part A pins: 2 IN- (in), 3 IN+ (in), 4 VS- (power), 6 VOUT (out), 7 VS+ (power)
part B pins: 1 NC, 5 NC, 8 NC

## THS4281DGKR
designator U?
Very Low-Power High Speed Rail-to-Rail Input / Output Voltage Feedback Operational Amplifier, 2.7 to 16.5 V, -40 to 85 degC, 8-pin SOP (DGK8), Green (RoHS & no Sb/Br); Manufacturer: Texas Instruments; PartNumber: THS4281DGKR; 2nd Harmonic(dBc): 52; @ MHz: 1; BW @ Acl(MHz): 90; Diff Gain(%): 0.11; Iib(Max)(nA): 1000; Io(Typ)(mA): 30; Rail-Rail: In, Out; Settling Time (0.1%)(Typ)(ns): 78; Slew Rate(Typ)(V/us): 35; Sub Family: High Speed Amplifier (>=50MHz), Low Supply Voltage Amplifier (<=2.7V); THD (Fc is 1 MHz)(Typ)(dB): -67; Vio(Max)(mV): 3.5; Vn at Flatband(Typ)(nV/rtHz): 12.5; Vs(Max)(V): 16.5; Vs(Min)(V): 2.7; DatasheetVersion: SLOS432A; PackageVersion: 4073329/E, 05/2006; PackageReference: DGK8; PackageDescription: 8-Pin Thin Small Outline, Body 3 x 3 mm, Pitch 0.65 mm; Supplier 1: Digi-Key; Supplier Part Number 1: THS4281DGKR-ND; Supplier 2: Mouser; Supplier Part Number 2: 595-THS4281DGKR; 3rd Harmonic(dBc): 52; Acl, min stable gain(V/V): 1; Diff Phase(deg): 0.11; Eco-Plan: Green (RoHS & no Sb/Br); Iq per channel(Max)(mA): 1; Number of Channels: 1; Mounting Technology: Surface Mount; Code_JEDEC: MO-187; ComponentLink1Description: Manufacturer URL; ComponentLink1URL: http://www.ti.com/; ComponentLink2Description: Datasheet; ComponentLink2URL: http://www.ti.com/general/docs/lit/getliterature.tsp?genericPartNumber=THS4281&fileType=pdf; ComponentLink3Description: Package Specification; ComponentLink3URL: http://www.ti.com/litv/pdf/mpds028d
footprint TI-DGK8_N (SOP, 8-Leads, Body 3x3mm, Pitch 0.65mm, IPC Medium Density)
footprint TI-DGK8_L (SOP, 8-Leads, Body 3x3mm, Pitch 0.65mm, IPC High Density)
footprint TI-DGK8_M (SOP, 8-Leads, Body 3x3mm, Pitch 0.65mm, IPC Low Density)
part A pins: 2 IN- (in), 3 IN+ (in), 4 VS- (power), 6 VOUT (out), 7 VS+ (power)
part B pins: 1 NC, 5 NC, 8 NC

## THS4281DGKRG4
designator U?
Very Low-Power High Speed Rail-to-Rail Input / Output Voltage Feedback Operational Amplifier, 2.7 to 16.5 V, -40 to 85 degC, 8-pin SOP (DGK8), Green (RoHS & no Sb/Br); Manufacturer: Texas Instruments; PartNumber: THS4281DGKRG4; 2nd Harmonic(dBc): 52; @ MHz: 1; BW @ Acl(MHz): 90; Diff Gain(%): 0.11; Iib(Max)(nA): 1000; Io(Typ)(mA): 30; Rail-Rail: In, Out; Settling Time (0.1%)(Typ)(ns): 78; Slew Rate(Typ)(V/us): 35; Sub Family: High Speed Amplifier (>=50MHz), Low Supply Voltage Amplifier (<=2.7V); THD (Fc is 1 MHz)(Typ)(dB): -67; Vio(Max)(mV): 3.5; Vn at Flatband(Typ)(nV/rtHz): 12.5; Vs(Max)(V): 16.5; Vs(Min)(V): 2.7; DatasheetVersion: SLOS432A; PackageVersion: 4073329/E, 05/2006; PackageReference: DGK8; PackageDescription: 8-Pin Thin Small Outline, Body 3 x 3 mm, Pitch 0.65 mm; Supplier 1: Digi-Key; Supplier Part Number 1: THS4281DGKRG4-ND; Supplier 2: Mouser; Supplier Part Number 2: 595-THS4281DGKRG4; 3rd Harmonic(dBc): 52; Acl, min stable gain(V/V): 1; Diff Phase(deg): 0.11; Eco-Plan: Green (RoHS & no Sb/Br); Iq per channel(Max)(mA): 1; Number of Channels: 1; Mounting Technology: Surface Mount; Code_JEDEC: MO-187; ComponentLink1Description: Manufacturer URL; ComponentLink1URL: http://www.ti.com/; ComponentLink2Description: Datasheet; ComponentLink2URL: http://www.ti.com/general/docs/lit/getliterature.tsp?genericPartNumber=THS4281&fileType=pdf; ComponentLink3Description: Package Specification; ComponentLink3URL: http://www.ti.com/litv/pdf/mpds028d
footprint TI-DGK8_N (SOP, 8-Leads, Body 3x3mm, Pitch 0.65mm, IPC Medium Density)
footprint TI-DGK8_L (SOP, 8-Leads, Body 3x3mm, Pitch 0.65mm, IPC High Density)
footprint TI-DGK8_M (SOP, 8-Leads, Body 3x3mm, Pitch 0.65mm, IPC Low Density)
part A pins: 2 IN- (in), 3 IN+ (in), 4 VS- (power), 6 VOUT (out), 7 VS+ (power)
part B pins: 1 NC, 5 NC, 8 NC

## THS4281DR
designator U?
Very Low-Power High Speed Rail-to-Rail Input / Output Voltage Feedback Operational Amplifier, 2.7 to 16.5 V, -40 to 85 degC, 8-pin SOIC (D8), Green (RoHS & no Sb/Br); Manufacturer: Texas Instruments; PartNumber: THS4281DR; 2nd Harmonic(dBc): 52; @ MHz: 1; BW @ Acl(MHz): 90; Diff Gain(%): 0.11; Iib(Max)(nA): 1000; Io(Typ)(mA): 30; Rail-Rail: In, Out; Settling Time (0.1%)(Typ)(ns): 78; Slew Rate(Typ)(V/us): 35; Sub Family: High Speed Amplifier (>=50MHz), Low Supply Voltage Amplifier (<=2.7V); THD (Fc is 1 MHz)(Typ)(dB): -67; Vio(Max)(mV): 3.5; Vn at Flatband(Typ)(nV/rtHz): 12.5; Vs(Max)(V): 16.5; Vs(Min)(V): 2.7; DatasheetVersion: SLOS432A; PackageVersion: 4040047-3/M, 06/2011; PackageReference: D8; PackageDescription: 8-Pin Plastic Small Outline, Body 4.9 x 3.9 mm, Pitch 1.27 mm; Supplier 1: Digi-Key; Supplier Part Number 1: THS4281DR-ND; Supplier 2: Mouser; Supplier Part Number 2: 595-THS4281DR; 3rd Harmonic(dBc): 52; Acl, min stable gain(V/V): 1; Diff Phase(deg): 0.11; Eco-Plan: Green (RoHS & no Sb/Br); Iq per channel(Max)(mA): 1; Number of Channels: 1; Mounting Technology: Surface Mount; Code_JEDEC: MS-012; ComponentLink1Description: Manufacturer URL; ComponentLink1URL: http://www.ti.com/; ComponentLink2Description: Datasheet; ComponentLink2URL: http://www.ti.com/general/docs/lit/getliterature.tsp?genericPartNumber=THS4281&fileType=pdf; ComponentLink3Description: Package Specification; ComponentLink3URL: http://www.ti.com/litv/pdf/msoi002j
footprint TI-D8_N (SOIC, 8-Leads, Body 4.9x3.9mm, Pitch 1.27mm, IPC Medium Density)
footprint TI-D8_L (SOIC, 8-Leads, Body 4.9x3.9mm, Pitch 1.27mm, IPC High Density)
footprint TI-D8_M (SOIC, 8-Leads, Body 4.9x3.9mm, Pitch 1.27mm, IPC Low Density)
part A pins: 2 IN- (in), 3 IN+ (in), 4 VS- (power), 6 VOUT (out), 7 VS+ (power)
part B pins: 1 NC, 5 NC, 8 NC

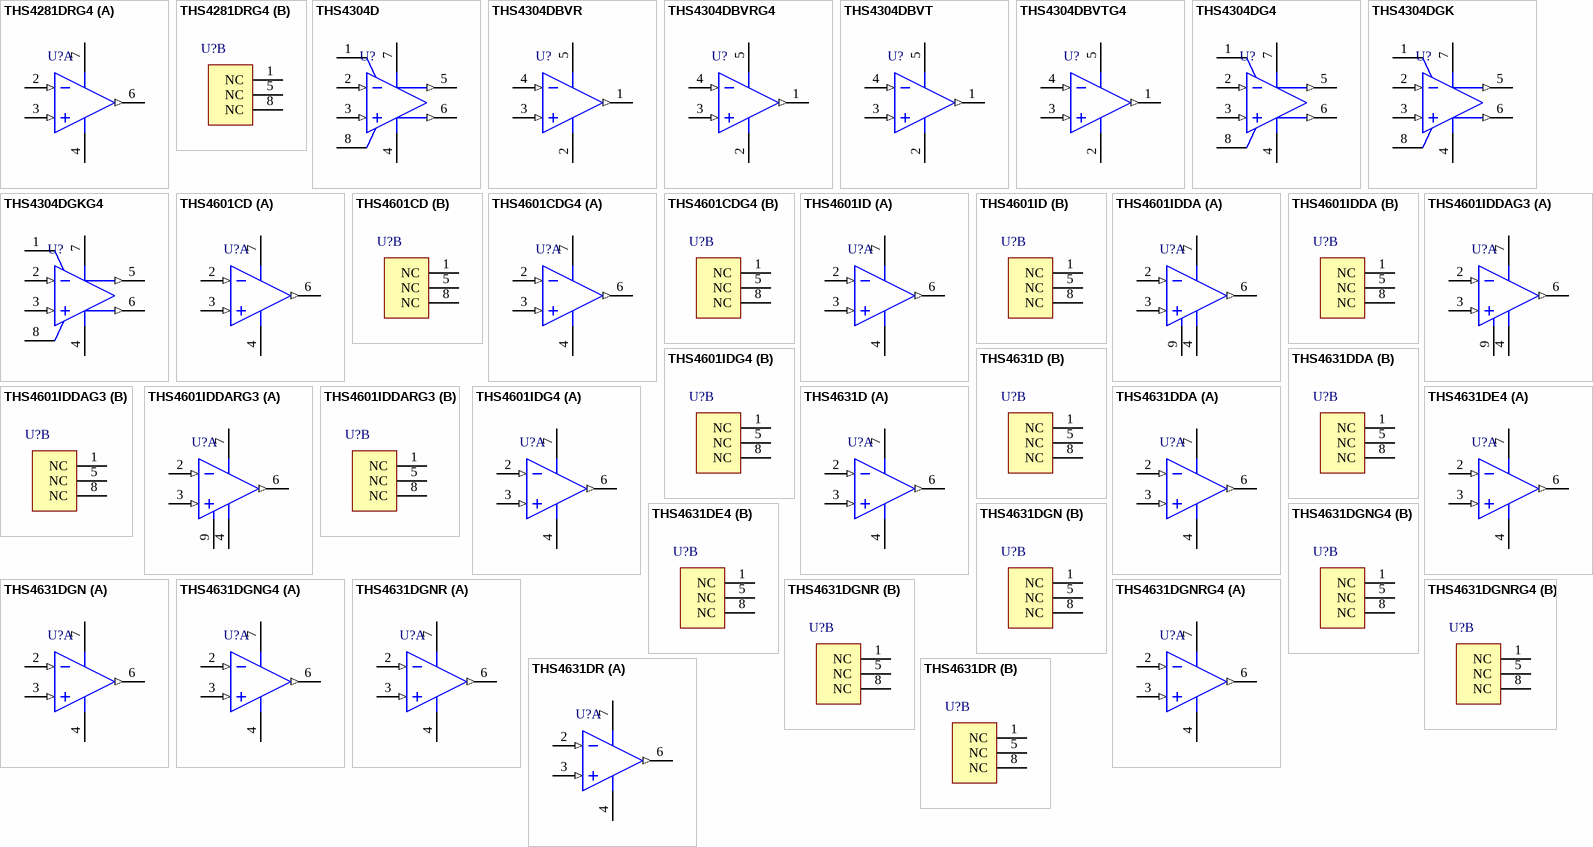
[diagram p43: symbols THS4281DRG4 to THS4631DR]

## THS4281DRG4
designator U?
Very Low-Power High Speed Rail-to-Rail Input / Output Voltage Feedback Operational Amplifier, 2.7 to 16.5 V, -40 to 85 degC, 8-pin SOIC (D8), Green (RoHS & no Sb/Br); Manufacturer: Texas Instruments; PartNumber: THS4281DRG4; 2nd Harmonic(dBc): 52; @ MHz: 1; BW @ Acl(MHz): 90; Diff Gain(%): 0.11; Iib(Max)(nA): 1000; Io(Typ)(mA): 30; Rail-Rail: In, Out; Settling Time (0.1%)(Typ)(ns): 78; Slew Rate(Typ)(V/us): 35; Sub Family: High Speed Amplifier (>=50MHz), Low Supply Voltage Amplifier (<=2.7V); THD (Fc is 1 MHz)(Typ)(dB): -67; Vio(Max)(mV): 3.5; Vn at Flatband(Typ)(nV/rtHz): 12.5; Vs(Max)(V): 16.5; Vs(Min)(V): 2.7; DatasheetVersion: SLOS432A; PackageVersion: 4040047-3/M, 06/2011; PackageReference: D8; PackageDescription: 8-Pin Plastic Small Outline, Body 4.9 x 3.9 mm, Pitch 1.27 mm; Supplier 1: Digi-Key; Supplier Part Number 1: THS4281DRG4-ND; Supplier 2: Mouser; Supplier Part Number 2: 595-THS4281DRG4; 3rd Harmonic(dBc): 52; Acl, min stable gain(V/V): 1; Diff Phase(deg): 0.11; Eco-Plan: Green (RoHS & no Sb/Br); Iq per channel(Max)(mA): 1; Number of Channels: 1; Mounting Technology: Surface Mount; Code_JEDEC: MS-012; ComponentLink1Description: Manufacturer URL; ComponentLink1URL: http://www.ti.com/; ComponentLink2Description: Datasheet; ComponentLink2URL: http://www.ti.com/general/docs/lit/getliterature.tsp?genericPartNumber=THS4281&fileType=pdf; ComponentLink3Description: Package Specification; ComponentLink3URL: http://www.ti.com/litv/pdf/msoi002j
footprint TI-D8_N (SOIC, 8-Leads, Body 4.9x3.9mm, Pitch 1.27mm, IPC Medium Density)
footprint TI-D8_L (SOIC, 8-Leads, Body 4.9x3.9mm, Pitch 1.27mm, IPC High Density)
footprint TI-D8_M (SOIC, 8-Leads, Body 4.9x3.9mm, Pitch 1.27mm, IPC Low Density)
part A pins: 2 IN- (in), 3 IN+ (in), 4 VS- (power), 6 VOUT (out), 7 VS+ (power)
part B pins: 1 NC, 5 NC, 8 NC

## THS4304D
designator U?
Wideband Operational Amplifier, 2.7 to 5 V, -40 to 85 degC, 8-pin SOIC (D8), Green (RoHS & no Sb/Br); Manufacturer: Texas Instruments; PartNumber: THS4304D; Acl, min stable gain(V/V): 1; BW @ Acl(MHz): 3000; Io(Typ)(mA): 100; Slew Rate(Typ)(V/us): 830; Sub Family: High Output Current Amplifier (>=50mA), High Speed Amplifier (>=50MHz); Vio(Max)(mV): 4; Vs(Max)(V): 5; Vs(Min)(V): 2.7; DatasheetVersion: SLOS436A; PackageVersion: 4040047-3/M, 06/2011; PackageReference: D8; PackageDescription: 8-Pin Plastic Small Outline, Body 4.9 x 3.9 mm, Pitch 1.27 mm; Supplier 1: Digi-Key; Supplier Part Number 1: 296-17250-5-ND; Supplier 2: Newark; Supplier Part Number 2: 21J9122; Supplier 3: Mouser; Supplier Part Number 3: 595-THS4304D; Eco-Plan: Green (RoHS & no Sb/Br); Number of Channels: 1; Mounting Technology: Surface Mount; Code_JEDEC: MS-012; ComponentLink1Description: Manufacturer URL; ComponentLink1URL: http://www.ti.com/; ComponentLink2Description: Datasheet; ComponentLink2URL: http://www.ti.com/general/docs/lit/getliterature.tsp?genericPartNumber=THS4304&fileType=pdf; ComponentLink3Description: Package Specification; ComponentLink3URL: http://www.ti.com/litv/pdf/msoi002j
footprint TI-D8_N (SOIC, 8-Leads, Body 4.9x3.9mm, Pitch 1.27mm, IPC Medium Density)
footprint TI-D8_L (SOIC, 8-Leads, Body 4.9x3.9mm, Pitch 1.27mm, IPC High Density)
footprint TI-D8_M (SOIC, 8-Leads, Body 4.9x3.9mm, Pitch 1.27mm, IPC Low Density)
pins: 1 NC, 2 IN- (in), 3 IN+ (in), 4 VS- (power), 5 VOUT (out), 6 VOUT (out), 7 VS+ (power), 8 NC

## THS4304DBVR
designator U?
Wideband Operational Amplifier, 2.7 to 5 V, -40 to 85 degC, 5-pin SOT23 (DBV5), Green (RoHS & no Sb/Br); Manufacturer: Texas Instruments; PartNumber: THS4304DBVR; Acl, min stable gain(V/V): 1; BW @ Acl(MHz): 3000; Io(Typ)(mA): 100; Slew Rate(Typ)(V/us): 830; Sub Family: High Output Current Amplifier (>=50mA), High Speed Amplifier (>=50MHz); Vio(Max)(mV): 4; Vs(Max)(V): 5; Vs(Min)(V): 2.7; DatasheetVersion: SLOS436A; PackageVersion: 4073253-4/K, 03/2006; PackageReference: DBV5; PackageDescription: 5-Pin Plastic Small Outline, Body 1.6 x 2.9 mm, Pitch 0.95 mm; Supplier 1: Digi-Key; Supplier Part Number 1: THS4304DBVR-ND; Supplier 2: Newark; Supplier Part Number 2: 21J9123; Supplier 3: Mouser; Supplier Part Number 3: 595-THS4304DBVR; Eco-Plan: Green (RoHS & no Sb/Br); Number of Channels: 1; Mounting Technology: Surface Mount; Code_JEDEC: MO-178; ComponentLink1Description: Manufacturer URL; ComponentLink1URL: http://www.ti.com/; ComponentLink2Description: Datasheet; ComponentLink2URL: http://www.ti.com/general/docs/lit/getliterature.tsp?genericPartNumber=THS4304&fileType=pdf; ComponentLink3Description: Package Specification; ComponentLink3URL: http://www.ti.com/litv/pdf/mpds018i
footprint TI-DBV5_N (SOT23, 5-Leads, Body 2.9x1.6mm, Pitch 0.95mm, IPC Medium Density)
footprint TI-DBV5_L (SOT23, 5-Leads, Body 2.9x1.6mm, Pitch 0.95mm, IPC High Density)
footprint TI-DBV5_M (SOT23, 5-Leads, Body 2.9x1.6mm, Pitch 0.95mm, IPC Low Density)
pins: 1 VOUT (out), 2 VS- (power), 3 IN+ (in), 4 IN- (in), 5 VS+ (power)

## THS4304DBVRG4
designator U?
Wideband Operational Amplifier, 2.7 to 5 V, -40 to 85 degC, 5-pin SOT23 (DBV5), Green (RoHS & no Sb/Br); Manufacturer: Texas Instruments; PartNumber: THS4304DBVRG4; Acl, min stable gain(V/V): 1; BW @ Acl(MHz): 3000; Io(Typ)(mA): 100; Slew Rate(Typ)(V/us): 830; Sub Family: High Output Current Amplifier (>=50mA), High Speed Amplifier (>=50MHz); Vio(Max)(mV): 4; Vs(Max)(V): 5; Vs(Min)(V): 2.7; DatasheetVersion: SLOS436A; PackageVersion: 4073253-4/K, 03/2006; PackageReference: DBV5; PackageDescription: 5-Pin Plastic Small Outline, Body 1.6 x 2.9 mm, Pitch 0.95 mm; Supplier 1: Digi-Key; Supplier Part Number 1: THS4304DBVRG4-ND; Supplier 2: Mouser; Supplier Part Number 2: 595-THS4304DBVRG4; Eco-Plan: Green (RoHS & no Sb/Br); Number of Channels: 1; Mounting Technology: Surface Mount; Code_JEDEC: MO-178; ComponentLink1Description: Manufacturer URL; ComponentLink1URL: http://www.ti.com/; ComponentLink2Description: Datasheet; ComponentLink2URL: http://www.ti.com/general/docs/lit/getliterature.tsp?genericPartNumber=THS4304&fileType=pdf; ComponentLink3Description: Package Specification; ComponentLink3URL: http://www.ti.com/litv/pdf/mpds018i
footprint TI-DBV5_N (SOT23, 5-Leads, Body 2.9x1.6mm, Pitch 0.95mm, IPC Medium Density)
footprint TI-DBV5_L (SOT23, 5-Leads, Body 2.9x1.6mm, Pitch 0.95mm, IPC High Density)
footprint TI-DBV5_M (SOT23, 5-Leads, Body 2.9x1.6mm, Pitch 0.95mm, IPC Low Density)
pins: 1 VOUT (out), 2 VS- (power), 3 IN+ (in), 4 IN- (in), 5 VS+ (power)

## THS4304DBVT
designator U?
Wideband Operational Amplifier, 2.7 to 5 V, -40 to 85 degC, 5-pin SOT23 (DBV5), Green (RoHS & no Sb/Br); Manufacturer: Texas Instruments; PartNumber: THS4304DBVT; Acl, min stable gain(V/V): 1; BW @ Acl(MHz): 3000; Io(Typ)(mA): 100; Slew Rate(Typ)(V/us): 830; Sub Family: High Output Current Amplifier (>=50mA), High Speed Amplifier (>=50MHz); Vio(Max)(mV): 4; Vs(Max)(V): 5; Vs(Min)(V): 2.7; DatasheetVersion: SLOS436A; PackageVersion: 4073253-4/K, 03/2006; PackageReference: DBV5; PackageDescription: 5-Pin Plastic Small Outline, Body 1.6 x 2.9 mm, Pitch 0.95 mm; Supplier 1: Digi-Key; Supplier Part Number 1: 296-17251-2-ND; Supplier 2: Digi-Key; Supplier Part Number 2: 296-17251-1-ND; Supplier 3: Digi-Key; Supplier Part Number 3: 296-17251-6-ND; Supplier 4: Newark; Supplier Part Number 4: 87W8970; Supplier 5: Newark; Supplier Part Number 5: 21J9124; Supplier 6: Mouser; Supplier Part Number 6: 595-THS4304DBVT; Eco-Plan: Green (RoHS & no Sb/Br); Number of Channels: 1; Mounting Technology: Surface Mount; Code_JEDEC: MO-178; ComponentLink1Description: Manufacturer URL; ComponentLink1URL: http://www.ti.com/; ComponentLink2Description: Datasheet; ComponentLink2URL: http://www.ti.com/general/docs/lit/getliterature.tsp?genericPartNumber=THS4304&fileType=pdf; ComponentLink3Description: Package Specification; ComponentLink3URL: http://www.ti.com/litv/pdf/mpds018i
footprint TI-DBV5_N (SOT23, 5-Leads, Body 2.9x1.6mm, Pitch 0.95mm, IPC Medium Density)
footprint TI-DBV5_L (SOT23, 5-Leads, Body 2.9x1.6mm, Pitch 0.95mm, IPC High Density)
footprint TI-DBV5_M (SOT23, 5-Leads, Body 2.9x1.6mm, Pitch 0.95mm, IPC Low Density)
pins: 1 VOUT (out), 2 VS- (power), 3 IN+ (in), 4 IN- (in), 5 VS+ (power)

## THS4304DBVTG4
designator U?
Wideband Operational Amplifier, 2.7 to 5 V, -40 to 85 degC, 5-pin SOT23 (DBV5), Green (RoHS & no Sb/Br); Manufacturer: Texas Instruments; PartNumber: THS4304DBVTG4; Acl, min stable gain(V/V): 1; Io(Typ)(mA): 100; Slew Rate(Typ)(V/us): 830; Sub Family: High Output Current Amplifier (>=50mA), High Speed Amplifier (>=50MHz); Vio(Max)(mV): 4; Vs(Max)(V): 5; Vs(Min)(V): 2.7; DatasheetVersion: SLOS436A; PackageVersion: 4073253-4/K, 03/2006; PackageReference: DBV5; PackageDescription: 5-Pin Plastic Small Outline, Body 1.6 x 2.9 mm, Pitch 0.95 mm; Supplier 1: Digi-Key; Supplier Part Number 1: THS4304DBVTG4-ND; Supplier 2: Mouser; Supplier Part Number 2: 595-THS4304DBVTG4; Eco-Plan: Green (RoHS & no Sb/Br); Mounting Technology: Surface Mount; Code_JEDEC: MO-178; ComponentLink1Description: Manufacturer URL; ComponentLink1URL: http://www.ti.com/; ComponentLink2Description: Datasheet; ComponentLink2URL: http://www.ti.com/general/docs/lit/getliterature.tsp?genericPartNumber=THS4304&fileType=pdf; ComponentLink3Description: Package Specification; ComponentLink3URL: http://www.ti.com/litv/pdf/mpds018i
footprint TI-DBV5_N (SOT23, 5-Leads, Body 2.9x1.6mm, Pitch 0.95mm, IPC Medium Density)
footprint TI-DBV5_L (SOT23, 5-Leads, Body 2.9x1.6mm, Pitch 0.95mm, IPC High Density)
footprint TI-DBV5_M (SOT23, 5-Leads, Body 2.9x1.6mm, Pitch 0.95mm, IPC Low Density)
pins: 1 VOUT (out), 2 VS- (power), 3 IN+ (in), 4 IN- (in), 5 VS+ (power)

## THS4304DG4
designator U?
Wideband Operational Amplifier, 2.7 to 5 V, -40 to 85 degC, 8-pin SOIC (D8), Green (RoHS & no Sb/Br); Manufacturer: Texas Instruments; PartNumber: THS4304DG4; Acl, min stable gain(V/V): 1; BW @ Acl(MHz): 3000; Io(Typ)(mA): 100; Slew Rate(Typ)(V/us): 830; Sub Family: High Output Current Amplifier (>=50mA), High Speed Amplifier (>=50MHz); Vio(Max)(mV): 4; Vs(Max)(V): 5; Vs(Min)(V): 2.7; DatasheetVersion: SLOS436A; PackageVersion: 4040047-3/M, 06/2011; PackageReference: D8; PackageDescription: 8-Pin Plastic Small Outline, Body 4.9 x 3.9 mm, Pitch 1.27 mm; Supplier 1: Digi-Key; Supplier Part Number 1: THS4304DG4-ND; Supplier 2: Mouser; Supplier Part Number 2: 595-THS4304DG4; Eco-Plan: Green (RoHS & no Sb/Br); Number of Channels: 1; Mounting Technology: Surface Mount; Code_JEDEC: MS-012; ComponentLink1Description: Manufacturer URL; ComponentLink1URL: http://www.ti.com/; ComponentLink2Description: Datasheet; ComponentLink2URL: http://www.ti.com/general/docs/lit/getliterature.tsp?genericPartNumber=THS4304&fileType=pdf; ComponentLink3Description: Package Specification; ComponentLink3URL: http://www.ti.com/litv/pdf/msoi002j
footprint TI-D8_N (SOIC, 8-Leads, Body 4.9x3.9mm, Pitch 1.27mm, IPC Medium Density)
footprint TI-D8_L (SOIC, 8-Leads, Body 4.9x3.9mm, Pitch 1.27mm, IPC High Density)
footprint TI-D8_M (SOIC, 8-Leads, Body 4.9x3.9mm, Pitch 1.27mm, IPC Low Density)
pins: 1 NC, 2 IN- (in), 3 IN+ (in), 4 VS- (power), 5 VOUT (out), 6 VOUT (out), 7 VS+ (power), 8 NC

## THS4304DGK
designator U?
Wideband Operational Amplifier, 2.7 to 5 V, -40 to 85 degC, 8-pin SOP (DGK8), Green (RoHS & no Sb/Br); Manufacturer: Texas Instruments; PartNumber: THS4304DGK; Acl, min stable gain(V/V): 1; BW @ Acl(MHz): 3000; Io(Typ)(mA): 100; Slew Rate(Typ)(V/us): 830; Sub Family: High Output Current Amplifier (>=50mA), High Speed Amplifier (>=50MHz); Vio(Max)(mV): 4; Vs(Max)(V): 5; Vs(Min)(V): 2.7; DatasheetVersion: SLOS436A; PackageVersion: 4073329/E, 05/2006; PackageReference: DGK8; PackageDescription: 8-Pin Thin Small Outline, Body 3 x 3 mm, Pitch 0.65 mm; Supplier 1: Digi-Key; Supplier Part Number 1: 296-17252-5-ND; Supplier 2: Mouser; Supplier Part Number 2: 595-THS4304DGK; Eco-Plan: Green (RoHS & no Sb/Br); Number of Channels: 1; Mounting Technology: Surface Mount; Code_JEDEC: MO-187; ComponentLink1Description: Manufacturer URL; ComponentLink1URL: http://www.ti.com/; ComponentLink2Description: Datasheet; ComponentLink2URL: http://www.ti.com/general/docs/lit/getliterature.tsp?genericPartNumber=THS4304&fileType=pdf; ComponentLink3Description: Package Specification; ComponentLink3URL: http://www.ti.com/litv/pdf/mpds028d
footprint TI-DGK8_N (SOP, 8-Leads, Body 3x3mm, Pitch 0.65mm, IPC Medium Density)
footprint TI-DGK8_L (SOP, 8-Leads, Body 3x3mm, Pitch 0.65mm, IPC High Density)
footprint TI-DGK8_M (SOP, 8-Leads, Body 3x3mm, Pitch 0.65mm, IPC Low Density)
pins: 1 NC, 2 IN- (in), 3 IN+ (in), 4 VS- (power), 5 VOUT (out), 6 VOUT (out), 7 VS+ (power), 8 NC